# Altium integrated library Linear Technology Power Management Power Control.IntLib: 661 symbols (part 31 of 43)
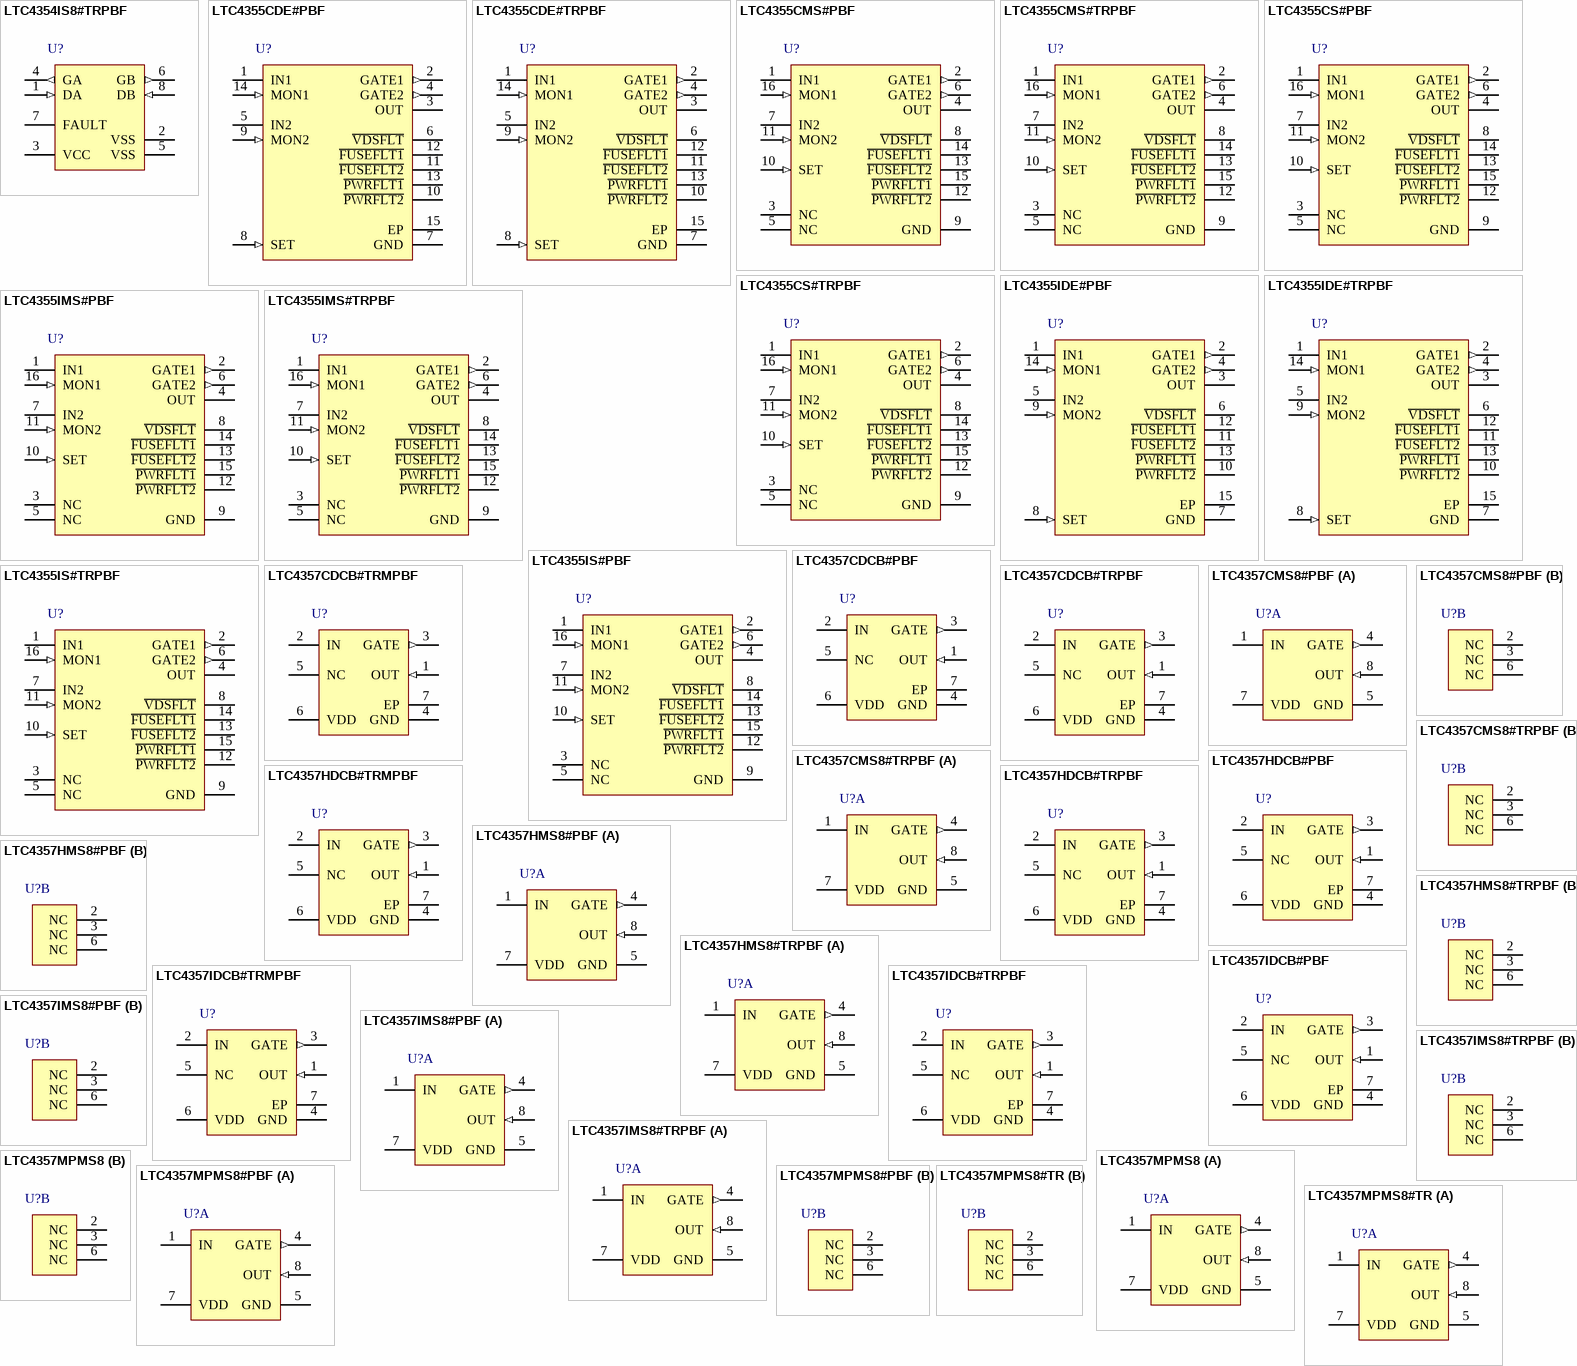
[diagram p49: symbols LTC4354IS8#TRPBF to LTC4357MPMS8#TR]

## LTC4355IMS#PBF
designator U?
Positive High Voltage Dual Ideal Diode-OR with Input Supply and Fuse Monitors, 9 to 80 V Vin, 16-pin SOP (MS-16), -40 to 85 degC, Pb-Free; Manufacturer: Linear Technology; PartNumber: LTC4355IMS#PBF; Ideal Diode: Dual, External, N-Channel; DatasheetVersion: Rev. E; PackageVersion: Rev. Ø, 06/2010; PackageReference: MS16; PackageDescription: 16-Pin Plastic MSOP, Body 4.04 x 3.00 mm, Pitch 0.50 mm; Supplier 1: Digi-Key; Supplier Part Number 1: LTC4355IMS#PBF-ND; Supplier 2: Farnell; Supplier Part Number 2: 2295294; Supplier 3: Newark; Supplier Part Number 3: 71P8109; RoHS: TRUE; Mounting Technology: Surface Mount; ComponentLink1Description: Manufacturer URL; ComponentLink1URL: http://www.linear.com/; ComponentLink2Description: Datasheet; ComponentLink2URL: http://cds.linear.com/docs/en/datasheet/4355fe.pdf; ComponentLink3Description: Package Specification; ComponentLink3URL: http://cds.linear.com/docs/en/packaging/05081669_A_MS16.pdf
footprint LT-MS-16_N (SOP, 16-Leads, Body 4.1x3.1mm, Pitch 0.5mm, IPC Medium Density)
footprint LT-MS-16_L (SOP, 16-Leads, Body 4.1x3.1mm, Pitch 0.5mm, IPC High Density)
footprint LT-MS-16_M (SOP, 16-Leads, Body 4.1x3.1mm, Pitch 0.5mm, IPC Low Density)
pins: 1 IN1 (power) "Input Voltages and GATE Fast Pull-Down Returns. The IN pins are the anodes of the ideal diodes and connect to the sources of the N-channel MOSFETs. The voltages sensed at these pins are used to control the source-drain (See Datasheet)", 2 GATE1 (out) "Gate Drive Outputs. The GATE pins pull high, enhancing the N-channel MOSFET when the load current creates more than 25mV of voltage drop across the MOSFET. When the load current is small, the gates are actively driven to (See Datasheet)", 3 NC "No Connection. Not internally connected. These pins provide extra distance between high and low voltage pins.", 4 OUT (power) "Drain Voltage Sense and Positive Supply Input. OUT is the diode-OR output of IN1 and IN2. It connects to the common drain connection of the N-channel MOSFETs. The voltage sensed at this pin is used to control the sourcedrain (See Datasheet)", 5 NC "No Connection. Not internally connected. These pins provide extra distance between high and low voltage pins.", 6 GATE2 (out) "Gate Drive Outputs. The GATE pins pull high, enhancing the N-channel MOSFET when the load current creates more than 25mV of voltage drop across the MOSFET. When the load current is small, the gates are actively driven to (See Datasheet)", 7 IN2 (power) "Input Voltages and GATE Fast Pull-Down Returns. The IN pins are the anodes of the ideal diodes and connect to the sources of the N-channel MOSFETs. The voltages sensed at these pins are used to control the source-drain (See Datasheet)", 8 ~{VDSFLT} (hiz) "MOSFET Fault Output. Open-drain output that pulls to GND when the forward voltage across either MOSFET exceeds deltaVSD(FLT). P\W\R\F\L\T\1\ or P\W\R\F\L\T\2\ also pulls low to indicate which MOSFET’s forward voltage dro(See Datasheet)", 9 GND (power) "Device Ground.", 10 SET (in) "deltaVSD(FLT) Threshold Configuration Input. Tying SET to GND, to a 100k resistor connected to GND, or leaving SET open configures the deltaVSD(FLT) forward voltage fault threshold to 250mV, 500mV, or 1.5V, respectively. (See Datasheet)", 11 MON2 (in) "Input Supply Monitors. These pins are used to sense the input supply voltages. Connect these pins to external resistive dividers between the input supplies and GND. If VMONx falls below 1.23V, the P\W\R\F\L\T\x\ pin pulls to (See Datasheet)", 12 ~{PWRFLT2} (hiz) "Power Fault Outputs. Open-drain output that pulls to GND when VMONx falls below 1.23V or the forward voltage across the MOSFET exceeds deltaVSD(FLT). When VMONx is above 1.23V and theforward voltage across the MOSFET is less (See Datasheet)", 13 ~{FUSEFLT2} (hiz) "Fuse Fault Outputs. Open-drain output that pulls to GND when VINx < 3.5V, indicating that the fuse has blown open. Otherwise, this output is high impedance. Connect to GND if unused.", 14 ~{FUSEFLT1} (hiz) "Fuse Fault Outputs. Open-drain output that pulls to GND when VINx < 3.5V, indicating that the fuse has blown open. Otherwise, this output is high impedance. Connect to GND if unused.", 15 ~{PWRFLT1} (hiz) "Power Fault Outputs. Open-drain output that pulls to GND when VMONx falls below 1.23V or the forward voltage across the MOSFET exceeds deltaVSD(FLT). When VMONx is above 1.23V and theforward voltage across the MOSFET is less (See Datasheet)", 16 MON1 (in) "Input Supply Monitors. These pins are used to sense the input supply voltages. Connect these pins to external resistive dividers between the input supplies and GND. If VMONx falls below 1.23V, the P\W\R\F\L\T\x\ pin pulls to (See Datasheet)"

## LTC4355IMS#TRPBF
designator U?
Positive High Voltage Dual Ideal Diode-OR with Input Supply and Fuse Monitors, 9 to 80 V Vin, 16-pin SOP (MS-16), -40 to 85 degC, Pb-Free, Tape and Reel; Manufacturer: Linear Technology; PartNumber: LTC4355IMS#TRPBF; Ideal Diode: Dual, External, N-Channel; DatasheetVersion: Rev. E; PackageVersion: Rev. Ø, 06/2010; PackageReference: MS16; PackageDescription: 16-Pin Plastic MSOP, Body 4.04 x 3.00 mm, Pitch 0.50 mm; Supplier 1: Digi-Key; Supplier Part Number 1: LTC4355IMS#TRPBF-ND; Supplier 2: Newark; Supplier Part Number 2: 71P8110; Packing: Tape and Reel; RoHS: TRUE; Mounting Technology: Surface Mount; ComponentLink1Description: Manufacturer URL; ComponentLink1URL: http://www.linear.com/; ComponentLink2Description: Datasheet; ComponentLink2URL: http://cds.linear.com/docs/en/datasheet/4355fe.pdf; ComponentLink3Description: Package Specification; ComponentLink3URL: http://cds.linear.com/docs/en/packaging/05081669_A_MS16.pdf
footprint LT-MS-16_N (SOP, 16-Leads, Body 4.1x3.1mm, Pitch 0.5mm, IPC Medium Density)
footprint LT-MS-16_L (SOP, 16-Leads, Body 4.1x3.1mm, Pitch 0.5mm, IPC High Density)
footprint LT-MS-16_M (SOP, 16-Leads, Body 4.1x3.1mm, Pitch 0.5mm, IPC Low Density)
pins: 1 IN1 (power) "Input Voltages and GATE Fast Pull-Down Returns. The IN pins are the anodes of the ideal diodes and connect to the sources of the N-channel MOSFETs. The voltages sensed at these pins are used to control the source-drain (See Datasheet)", 2 GATE1 (out) "Gate Drive Outputs. The GATE pins pull high, enhancing the N-channel MOSFET when the load current creates more than 25mV of voltage drop across the MOSFET. When the load current is small, the gates are actively driven to (See Datasheet)", 3 NC "No Connection. Not internally connected. These pins provide extra distance between high and low voltage pins.", 4 OUT (power) "Drain Voltage Sense and Positive Supply Input. OUT is the diode-OR output of IN1 and IN2. It connects to the common drain connection of the N-channel MOSFETs. The voltage sensed at this pin is used to control the sourcedrain (See Datasheet)", 5 NC "No Connection. Not internally connected. These pins provide extra distance between high and low voltage pins.", 6 GATE2 (out) "Gate Drive Outputs. The GATE pins pull high, enhancing the N-channel MOSFET when the load current creates more than 25mV of voltage drop across the MOSFET. When the load current is small, the gates are actively driven to (See Datasheet)", 7 IN2 (power) "Input Voltages and GATE Fast Pull-Down Returns. The IN pins are the anodes of the ideal diodes and connect to the sources of the N-channel MOSFETs. The voltages sensed at these pins are used to control the source-drain (See Datasheet)", 8 ~{VDSFLT} (hiz) "MOSFET Fault Output. Open-drain output that pulls to GND when the forward voltage across either MOSFET exceeds deltaVSD(FLT). P\W\R\F\L\T\1\ or P\W\R\F\L\T\2\ also pulls low to indicate which MOSFET’s forward voltage dro(See Datasheet)", 9 GND (power) "Device Ground.", 10 SET (in) "deltaVSD(FLT) Threshold Configuration Input. Tying SET to GND, to a 100k resistor connected to GND, or leaving SET open configures the deltaVSD(FLT) forward voltage fault threshold to 250mV, 500mV, or 1.5V, respectively. (See Datasheet)", 11 MON2 (in) "Input Supply Monitors. These pins are used to sense the input supply voltages. Connect these pins to external resistive dividers between the input supplies and GND. If VMONx falls below 1.23V, the P\W\R\F\L\T\x\ pin pulls to (See Datasheet)", 12 ~{PWRFLT2} (hiz) "Power Fault Outputs. Open-drain output that pulls to GND when VMONx falls below 1.23V or the forward voltage across the MOSFET exceeds deltaVSD(FLT). When VMONx is above 1.23V and theforward voltage across the MOSFET is less (See Datasheet)", 13 ~{FUSEFLT2} (hiz) "Fuse Fault Outputs. Open-drain output that pulls to GND when VINx < 3.5V, indicating that the fuse has blown open. Otherwise, this output is high impedance. Connect to GND if unused.", 14 ~{FUSEFLT1} (hiz) "Fuse Fault Outputs. Open-drain output that pulls to GND when VINx < 3.5V, indicating that the fuse has blown open. Otherwise, this output is high impedance. Connect to GND if unused.", 15 ~{PWRFLT1} (hiz) "Power Fault Outputs. Open-drain output that pulls to GND when VMONx falls below 1.23V or the forward voltage across the MOSFET exceeds deltaVSD(FLT). When VMONx is above 1.23V and theforward voltage across the MOSFET is less (See Datasheet)", 16 MON1 (in) "Input Supply Monitors. These pins are used to sense the input supply voltages. Connect these pins to external resistive dividers between the input supplies and GND. If VMONx falls below 1.23V, the P\W\R\F\L\T\x\ pin pulls to (See Datasheet)"

## LTC4355IS#PBF
designator U?
Positive High Voltage Dual Ideal Diode-OR with Input Supply and Fuse Monitors, 9 to 80 V Vin, 16-pin SOP (S-16), -40 to 85 degC, Pb-Free; Manufacturer: Linear Technology; PartNumber: LTC4355IS#PBF; Ideal Diode: Dual, External, N-Channel; DatasheetVersion: Rev. E; PackageVersion: Rev. G, 05/2012; PackageReference: S-16; PackageDescription: 16-Pin Plastic Small Outline, Body 9.9 x 3.9 mm, Pitch 1.27 mm; Supplier 1: Digi-Key; Supplier Part Number 1: LTC4355IS#PBF-ND; Supplier 2: Farnell; Supplier Part Number 2: 1663735; Supplier 3: Newark; Supplier Part Number 3: 56M9464; RoHS: TRUE; Mounting Technology: Surface Mount; ComponentLink1Description: Manufacturer URL; ComponentLink1URL: http://www.linear.com/; ComponentLink2Description: Datasheet; ComponentLink2URL: http://cds.linear.com/docs/en/datasheet/4355fe.pdf; ComponentLink3Description: Package Specification; ComponentLink3URL: http://cds.linear.com/docs/en/packaging/S16%2005-08-1610%20Rev%20G.pdf
footprint LT-S-16_N (SOP, 16-Leads, Body 10x4mm, Pitch 1.27mm, IPC Medium Density)
footprint LT-S-16_L (SOP, 16-Leads, Body 10x4mm, Pitch 1.27mm, IPC High Density)
footprint LT-S-16_M (SOP, 16-Leads, Body 10x4mm, Pitch 1.27mm, IPC Low Density)
pins: 1 IN1 (power) "Input Voltages and GATE Fast Pull-Down Returns. The IN pins are the anodes of the ideal diodes and connect to the sources of the N-channel MOSFETs. The voltages sensed at these pins are used to control the source-drain (See Datasheet)", 2 GATE1 (out) "Gate Drive Outputs. The GATE pins pull high, enhancing the N-channel MOSFET when the load current creates more than 25mV of voltage drop across the MOSFET. When the load current is small, the gates are actively driven to (See Datasheet)", 3 NC "No Connection. Not internally connected. These pins provide extra distance between high and low voltage pins.", 4 OUT (power) "Drain Voltage Sense and Positive Supply Input. OUT is the diode-OR output of IN1 and IN2. It connects to the common drain connection of the N-channel MOSFETs. The voltage sensed at this pin is used to control the sourcedrain (See Datasheet)", 5 NC "No Connection. Not internally connected. These pins provide extra distance between high and low voltage pins.", 6 GATE2 (out) "Gate Drive Outputs. The GATE pins pull high, enhancing the N-channel MOSFET when the load current creates more than 25mV of voltage drop across the MOSFET. When the load current is small, the gates are actively driven to (See Datasheet)", 7 IN2 (power) "Input Voltages and GATE Fast Pull-Down Returns. The IN pins are the anodes of the ideal diodes and connect to the sources of the N-channel MOSFETs. The voltages sensed at these pins are used to control the source-drain (See Datasheet)", 8 ~{VDSFLT} (hiz) "MOSFET Fault Output. Open-drain output that pulls to GND when the forward voltage across either MOSFET exceeds deltaVSD(FLT). P\W\R\F\L\T\1\ or P\W\R\F\L\T\2\ also pulls low to indicate which MOSFET’s forward voltage dro(See Datasheet)", 9 GND (power) "Device Ground.", 10 SET (in) "deltaVSD(FLT) Threshold Configuration Input. Tying SET to GND, to a 100k resistor connected to GND, or leaving SET open configures the deltaVSD(FLT) forward voltage fault threshold to 250mV, 500mV, or 1.5V, respectively. (See Datasheet)", 11 MON2 (in) "Input Supply Monitors. These pins are used to sense the input supply voltages. Connect these pins to external resistive dividers between the input supplies and GND. If VMONx falls below 1.23V, the P\W\R\F\L\T\x\ pin pulls to (See Datasheet)", 12 ~{PWRFLT2} (hiz) "Power Fault Outputs. Open-drain output that pulls to GND when VMONx falls below 1.23V or the forward voltage across the MOSFET exceeds deltaVSD(FLT). When VMONx is above 1.23V and theforward voltage across the MOSFET is less (See Datasheet)", 13 ~{FUSEFLT2} (hiz) "Fuse Fault Outputs. Open-drain output that pulls to GND when VINx < 3.5V, indicating that the fuse has blown open. Otherwise, this output is high impedance. Connect to GND if unused.", 14 ~{FUSEFLT1} (hiz) "Fuse Fault Outputs. Open-drain output that pulls to GND when VINx < 3.5V, indicating that the fuse has blown open. Otherwise, this output is high impedance. Connect to GND if unused.", 15 ~{PWRFLT1} (hiz) "Power Fault Outputs. Open-drain output that pulls to GND when VMONx falls below 1.23V or the forward voltage across the MOSFET exceeds deltaVSD(FLT). When VMONx is above 1.23V and theforward voltage across the MOSFET is less (See Datasheet)", 16 MON1 (in) "Input Supply Monitors. These pins are used to sense the input supply voltages. Connect these pins to external resistive dividers between the input supplies and GND. If VMONx falls below 1.23V, the P\W\R\F\L\T\x\ pin pulls to (See Datasheet)"

## LTC4355IS#TRPBF
designator U?
Positive High Voltage Dual Ideal Diode-OR with Input Supply and Fuse Monitors, 9 to 80 V Vin, 16-pin SOP (S-16), -40 to 85 degC, Pb-Free, Tape and Reel; Manufacturer: Linear Technology; PartNumber: LTC4355IS#TRPBF; Ideal Diode: Dual, External, N-Channel; DatasheetVersion: Rev. E; PackageVersion: Rev. G, 05/2012; PackageReference: S-16; PackageDescription: 16-Pin Plastic Small Outline, Body 9.9 x 3.9 mm, Pitch 1.27 mm; Supplier 1: Digi-Key; Supplier Part Number 1: LTC4355IS#TRPBF-ND; Packing: Tape and Reel; RoHS: TRUE; Mounting Technology: Surface Mount; ComponentLink1Description: Manufacturer URL; ComponentLink1URL: http://www.linear.com/; ComponentLink2Description: Datasheet; ComponentLink2URL: http://cds.linear.com/docs/en/datasheet/4355fe.pdf; ComponentLink3Description: Package Specification; ComponentLink3URL: http://cds.linear.com/docs/en/packaging/S16%2005-08-1610%20Rev%20G.pdf
footprint LT-S-16_N (SOP, 16-Leads, Body 10x4mm, Pitch 1.27mm, IPC Medium Density)
footprint LT-S-16_L (SOP, 16-Leads, Body 10x4mm, Pitch 1.27mm, IPC High Density)
footprint LT-S-16_M (SOP, 16-Leads, Body 10x4mm, Pitch 1.27mm, IPC Low Density)
pins: 1 IN1 (power) "Input Voltages and GATE Fast Pull-Down Returns. The IN pins are the anodes of the ideal diodes and connect to the sources of the N-channel MOSFETs. The voltages sensed at these pins are used to control the source-drain (See Datasheet)", 2 GATE1 (out) "Gate Drive Outputs. The GATE pins pull high, enhancing the N-channel MOSFET when the load current creates more than 25mV of voltage drop across the MOSFET. When the load current is small, the gates are actively driven to (See Datasheet)", 3 NC "No Connection. Not internally connected. These pins provide extra distance between high and low voltage pins.", 4 OUT (power) "Drain Voltage Sense and Positive Supply Input. OUT is the diode-OR output of IN1 and IN2. It connects to the common drain connection of the N-channel MOSFETs. The voltage sensed at this pin is used to control the sourcedrain (See Datasheet)", 5 NC "No Connection. Not internally connected. These pins provide extra distance between high and low voltage pins.", 6 GATE2 (out) "Gate Drive Outputs. The GATE pins pull high, enhancing the N-channel MOSFET when the load current creates more than 25mV of voltage drop across the MOSFET. When the load current is small, the gates are actively driven to (See Datasheet)", 7 IN2 (power) "Input Voltages and GATE Fast Pull-Down Returns. The IN pins are the anodes of the ideal diodes and connect to the sources of the N-channel MOSFETs. The voltages sensed at these pins are used to control the source-drain (See Datasheet)", 8 ~{VDSFLT} (hiz) "MOSFET Fault Output. Open-drain output that pulls to GND when the forward voltage across either MOSFET exceeds deltaVSD(FLT). P\W\R\F\L\T\1\ or P\W\R\F\L\T\2\ also pulls low to indicate which MOSFET’s forward voltage dro(See Datasheet)", 9 GND (power) "Device Ground.", 10 SET (in) "deltaVSD(FLT) Threshold Configuration Input. Tying SET to GND, to a 100k resistor connected to GND, or leaving SET open configures the deltaVSD(FLT) forward voltage fault threshold to 250mV, 500mV, or 1.5V, respectively. (See Datasheet)", 11 MON2 (in) "Input Supply Monitors. These pins are used to sense the input supply voltages. Connect these pins to external resistive dividers between the input supplies and GND. If VMONx falls below 1.23V, the P\W\R\F\L\T\x\ pin pulls to (See Datasheet)", 12 ~{PWRFLT2} (hiz) "Power Fault Outputs. Open-drain output that pulls to GND when VMONx falls below 1.23V or the forward voltage across the MOSFET exceeds deltaVSD(FLT). When VMONx is above 1.23V and theforward voltage across the MOSFET is less (See Datasheet)", 13 ~{FUSEFLT2} (hiz) "Fuse Fault Outputs. Open-drain output that pulls to GND when VINx < 3.5V, indicating that the fuse has blown open. Otherwise, this output is high impedance. Connect to GND if unused.", 14 ~{FUSEFLT1} (hiz) "Fuse Fault Outputs. Open-drain output that pulls to GND when VINx < 3.5V, indicating that the fuse has blown open. Otherwise, this output is high impedance. Connect to GND if unused.", 15 ~{PWRFLT1} (hiz) "Power Fault Outputs. Open-drain output that pulls to GND when VMONx falls below 1.23V or the forward voltage across the MOSFET exceeds deltaVSD(FLT). When VMONx is above 1.23V and theforward voltage across the MOSFET is less (See Datasheet)", 16 MON1 (in) "Input Supply Monitors. These pins are used to sense the input supply voltages. Connect these pins to external resistive dividers between the input supplies and GND. If VMONx falls below 1.23V, the P\W\R\F\L\T\x\ pin pulls to (See Datasheet)"

## LTC4357CDCB#PBF
designator U?
Positive High Voltage Ideal Diode Controller, 9 to 80 V Vin, 6-pin SON (DCB-6), 0 to 70 degC, Pb-Free; Manufacturer: Linear Technology; PartNumber: LTC4357CDCB#PBF; Ideal Diode: Single, External, N-Channel; DatasheetVersion: Rev. D; PackageVersion: Rev. A, 03/2011; PackageReference: DCB-6; PackageDescription: 6-Pin Plastic DFN, Body 2 x 3 mm, Pitch 0.5 mm; Supplier 1: Newark; Supplier Part Number 1: 78T3367; RoHS: TRUE; Mounting Technology: Surface Mount; Code_JEDEC: MO-229; ComponentLink1Description: Manufacturer URL; ComponentLink1URL: http://www.linear.com/; ComponentLink2Description: Datasheet; ComponentLink2URL: http://cds.linear.com/docs/en/datasheet/4357fd.pdf; ComponentLink3Description: Package Specification; ComponentLink3URL: http://www.linear.com/docs/en/packaging/(DCB6)%20DFN%2005-08-1715%20Rev%20A.pdf
footprint LT-DCB-6_V (SON, 6-Leads, Body 3x2mm, Pitch 0.5mm, Thermal Pad 1.65x1.35mm)
pins: 1 OUT (in) "Drain Voltage Sense. OUT is the cathode of the ideal diode and the common output when multiple LTC4357s are configured as an ideal diode-OR. It connects to the drain of the N-channel MOSFET. The voltage sensed at this pin is (See Datasheet)", 2 IN (power) "Input Voltage and GATE Fast Pull-Down Return. IN is the anode of the ideal diode and connects to the source of the N-channel MOSFET. The voltage sensed at this pin is used to control the source-drain voltage across the (See Datasheet)", 3 GATE (out) "Gate Drive Output. The GATE pin pulls high, enhancing the N-channel MOSFET when the load current creates more than 25mV of voltage drop across the MOSFET. When the load current is small, the gate is actively driven to (See Datasheet)", 4 GND (power) "Device Ground.", 5 NC "No Connection. Not internally connected.", 6 VDD (power) "Positive Supply Input. The LTC4357 is powered from the VDD pin. Connect this pin to OUT either directly or through an RC hold-up circuit.", 7 EP (power) "Exposed pad may be left open or connected to GND."

## LTC4357CDCB#TRMPBF
designator U?
Positive High Voltage Ideal Diode Controller, 9 to 80 V Vin, 6-pin SON (DCB-6), 0 to 70 degC, Pb-Free, Mini Tape and Reel; Manufacturer: Linear Technology; PartNumber: LTC4357CDCB#TRMPBF; Ideal Diode: Single, External, N-Channel; DatasheetVersion: Rev. D; PackageVersion: Rev. A, 03/2011; PackageReference: DCB-6; PackageDescription: 6-Pin Plastic DFN, Body 2 x 3 mm, Pitch 0.5 mm; Supplier 1: Digi-Key; Supplier Part Number 1: LTC4357CDCB#TRMPBFTR-ND; Supplier 2: Digi-Key; Supplier Part Number 2: LTC4357CDCB#TRMPBFCT-ND; Supplier 3: Digi-Key; Supplier Part Number 3: LTC4357CDCB#TRMPBFDKR-ND; Supplier 4: Newark; Supplier Part Number 4: 56M9466; RoHS: TRUE; Mounting Technology: Surface Mount; Code_JEDEC: MO-229; ComponentLink1Description: Manufacturer URL; ComponentLink1URL: http://www.linear.com/; ComponentLink2Description: Datasheet; ComponentLink2URL: http://cds.linear.com/docs/en/datasheet/4357fd.pdf; ComponentLink3Description: Package Specification; ComponentLink3URL: http://www.linear.com/docs/en/packaging/(DCB6)%20DFN%2005-08-1715%20Rev%20A.pdf
footprint LT-DCB-6_V (SON, 6-Leads, Body 3x2mm, Pitch 0.5mm, Thermal Pad 1.65x1.35mm)
pins: 1 OUT (in) "Drain Voltage Sense. OUT is the cathode of the ideal diode and the common output when multiple LTC4357s are configured as an ideal diode-OR. It connects to the drain of the N-channel MOSFET. The voltage sensed at this pin is (See Datasheet)", 2 IN (power) "Input Voltage and GATE Fast Pull-Down Return. IN is the anode of the ideal diode and connects to the source of the N-channel MOSFET. The voltage sensed at this pin is used to control the source-drain voltage across the (See Datasheet)", 3 GATE (out) "Gate Drive Output. The GATE pin pulls high, enhancing the N-channel MOSFET when the load current creates more than 25mV of voltage drop across the MOSFET. When the load current is small, the gate is actively driven to (See Datasheet)", 4 GND (power) "Device Ground.", 5 NC "No Connection. Not internally connected.", 6 VDD (power) "Positive Supply Input. The LTC4357 is powered from the VDD pin. Connect this pin to OUT either directly or through an RC hold-up circuit.", 7 EP (power) "Exposed pad may be left open or connected to GND."

## LTC4357CDCB#TRPBF
designator U?
Positive High Voltage Ideal Diode Controller, 9 to 80 V Vin, 6-pin SON (DCB-6), 0 to 70 degC, Pb-Free, Tape and Reel; Manufacturer: Linear Technology; PartNumber: LTC4357CDCB#TRPBF; Ideal Diode: Single, External, N-Channel; DatasheetVersion: Rev. D; PackageVersion: Rev. A, 03/2011; PackageReference: DCB-6; PackageDescription: 6-Pin Plastic DFN, Body 2 x 3 mm, Pitch 0.5 mm; Supplier 1: Digi-Key; Supplier Part Number 1: LTC4357CDCB#TRPBF-ND; Packing: Tape and Reel; RoHS: TRUE; Mounting Technology: Surface Mount; Code_JEDEC: MO-229; ComponentLink1Description: Manufacturer URL; ComponentLink1URL: http://www.linear.com/; ComponentLink2Description: Datasheet; ComponentLink2URL: http://cds.linear.com/docs/en/datasheet/4357fd.pdf; ComponentLink3Description: Package Specification; ComponentLink3URL: http://www.linear.com/docs/en/packaging/(DCB6)%20DFN%2005-08-1715%20Rev%20A.pdf
footprint LT-DCB-6_V (SON, 6-Leads, Body 3x2mm, Pitch 0.5mm, Thermal Pad 1.65x1.35mm)
pins: 1 OUT (in) "Drain Voltage Sense. OUT is the cathode of the ideal diode and the common output when multiple LTC4357s are configured as an ideal diode-OR. It connects to the drain of the N-channel MOSFET. The voltage sensed at this pin is (See Datasheet)", 2 IN (power) "Input Voltage and GATE Fast Pull-Down Return. IN is the anode of the ideal diode and connects to the source of the N-channel MOSFET. The voltage sensed at this pin is used to control the source-drain voltage across the (See Datasheet)", 3 GATE (out) "Gate Drive Output. The GATE pin pulls high, enhancing the N-channel MOSFET when the load current creates more than 25mV of voltage drop across the MOSFET. When the load current is small, the gate is actively driven to (See Datasheet)", 4 GND (power) "Device Ground.", 5 NC "No Connection. Not internally connected.", 6 VDD (power) "Positive Supply Input. The LTC4357 is powered from the VDD pin. Connect this pin to OUT either directly or through an RC hold-up circuit.", 7 EP (power) "Exposed pad may be left open or connected to GND."

## LTC4357CMS8#PBF
designator U?
Positive High Voltage Ideal Diode Controller, 9 to 80 V Vin, 8-pin SOP (MS8-8), 0 to 70 degC, Pb-Free; Manufacturer: Linear Technology; PartNumber: LTC4357CMS8#PBF; Ideal Diode: Single, External, N-Channel; DatasheetVersion: Rev. D; PackageVersion: Rev. G, 03/2012; PackageReference: MS8-8; PackageDescription: 8-Pin Plastic MSOP, Body 3 x 3 mm, Pitch 0.65 mm; Supplier 1: Digi-Key; Supplier Part Number 1: LTC4357CMS8#PBF-ND; Supplier 2: Farnell; Supplier Part Number 2: 1432779; Supplier 3: Newark; Supplier Part Number 3: 56M9468; RoHS: TRUE; Mounting Technology: Surface Mount; ComponentLink1Description: Manufacturer URL; ComponentLink1URL: http://www.linear.com/; ComponentLink2Description: Datasheet; ComponentLink2URL: http://cds.linear.com/docs/en/datasheet/4357fd.pdf; ComponentLink3Description: Package Specification; ComponentLink3URL: http://cds.linear.com/docs/en/packaging/05081660_G_MS8.pdf
footprint LT-MS8-8_N (SOP, 8-Leads, Body 3.1x3.1mm, Pitch 0.65mm, IPC Medium Density)
footprint LT-MS8-8_L (SOP, 8-Leads, Body 3.1x3.1mm, Pitch 0.65mm, IPC High Density)
footprint LT-MS8-8_M (SOP, 8-Leads, Body 3.1x3.1mm, Pitch 0.65mm, IPC Low Density)
part A pins: 1 IN (power) "Input Voltage and GATE Fast Pull-Down Return. IN is the anode of the ideal diode and connects to the source of the N-channel MOSFET. The voltage sensed at this pin is used to control the source-drain voltage across the (See Datasheet)", 4 GATE (out) "Gate Drive Output. The GATE pin pulls high, enhancing the N-channel MOSFET when the load current creates more than 25mV of voltage drop across the MOSFET. When the load current is small, the gate is actively driven to (See Datasheet)", 5 GND (power) "Device Ground.", 7 VDD (power) "Positive Supply Input. The LTC4357 is powered from the VDD pin. Connect this pin to OUT either directly or through an RC hold-up circuit.", 8 OUT (in) "Drain Voltage Sense. OUT is the cathode of the ideal diode and the common output when multiple LTC4357s are configured as an ideal diode-OR. It connects to the drain of the N-channel MOSFET. The voltage sensed at this pin is (See Datasheet)"
part B pins: 2 NC "No Connection. Not internally connected.", 3 NC "No Connection. Not internally connected.", 6 NC "No Connection. Not internally connected."

## LTC4357CMS8#TRPBF
designator U?
Positive High Voltage Ideal Diode Controller, 9 to 80 V Vin, 8-pin SOP (MS8-8), 0 to 70 degC, Pb-Free, Tape and Reel; Manufacturer: Linear Technology; PartNumber: LTC4357CMS8#TRPBF; Ideal Diode: Single, External, N-Channel; DatasheetVersion: Rev. D; PackageVersion: Rev. G, 03/2012; PackageReference: MS8-8; PackageDescription: 8-Pin Plastic MSOP, Body 3 x 3 mm, Pitch 0.65 mm; Supplier 1: Digi-Key; Supplier Part Number 1: LTC4357CMS8#TRPBF-ND; Supplier 2: Newark; Supplier Part Number 2: 56M9469; Packing: Tape and Reel; RoHS: TRUE; Mounting Technology: Surface Mount; ComponentLink1Description: Manufacturer URL; ComponentLink1URL: http://www.linear.com/; ComponentLink2Description: Datasheet; ComponentLink2URL: http://cds.linear.com/docs/en/datasheet/4357fd.pdf; ComponentLink3Description: Package Specification; ComponentLink3URL: http://cds.linear.com/docs/en/packaging/05081660_G_MS8.pdf
footprint LT-MS8-8_N (SOP, 8-Leads, Body 3.1x3.1mm, Pitch 0.65mm, IPC Medium Density)
footprint LT-MS8-8_L (SOP, 8-Leads, Body 3.1x3.1mm, Pitch 0.65mm, IPC High Density)
footprint LT-MS8-8_M (SOP, 8-Leads, Body 3.1x3.1mm, Pitch 0.65mm, IPC Low Density)
part A pins: 1 IN (power) "Input Voltage and GATE Fast Pull-Down Return. IN is the anode of the ideal diode and connects to the source of the N-channel MOSFET. The voltage sensed at this pin is used to control the source-drain voltage across the (See Datasheet)", 4 GATE (out) "Gate Drive Output. The GATE pin pulls high, enhancing the N-channel MOSFET when the load current creates more than 25mV of voltage drop across the MOSFET. When the load current is small, the gate is actively driven to (See Datasheet)", 5 GND (power) "Device Ground.", 7 VDD (power) "Positive Supply Input. The LTC4357 is powered from the VDD pin. Connect this pin to OUT either directly or through an RC hold-up circuit.", 8 OUT (in) "Drain Voltage Sense. OUT is the cathode of the ideal diode and the common output when multiple LTC4357s are configured as an ideal diode-OR. It connects to the drain of the N-channel MOSFET. The voltage sensed at this pin is (See Datasheet)"
part B pins: 2 NC "No Connection. Not internally connected.", 3 NC "No Connection. Not internally connected.", 6 NC "No Connection. Not internally connected."

## LTC4357HDCB#PBF
designator U?
Positive High Voltage Ideal Diode Controller, 9 to 80 V Vin, 6-pin SON (DCB-6), -40 to 125 degC, Pb-Free; Manufacturer: Linear Technology; PartNumber: LTC4357HDCB#PBF; Ideal Diode: Single, External, N-Channel; DatasheetVersion: Rev. D; PackageVersion: Rev. A, 03/2011; PackageReference: DCB-6; PackageDescription: 6-Pin Plastic DFN, Body 2 x 3 mm, Pitch 0.5 mm; Supplier 1: Farnell; Supplier Part Number 1: 1761230; Supplier 2: Newark; Supplier Part Number 2: 24R8518; RoHS: TRUE; Mounting Technology: Surface Mount; Code_JEDEC: MO-229; ComponentLink1Description: Manufacturer URL; ComponentLink1URL: http://www.linear.com/; ComponentLink2Description: Datasheet; ComponentLink2URL: http://cds.linear.com/docs/en/datasheet/4357fd.pdf; ComponentLink3Description: Package Specification; ComponentLink3URL: http://www.linear.com/docs/en/packaging/(DCB6)%20DFN%2005-08-1715%20Rev%20A.pdf
footprint LT-DCB-6_V (SON, 6-Leads, Body 3x2mm, Pitch 0.5mm, Thermal Pad 1.65x1.35mm)
pins: 1 OUT (in) "Drain Voltage Sense. OUT is the cathode of the ideal diode and the common output when multiple LTC4357s are configured as an ideal diode-OR. It connects to the drain of the N-channel MOSFET. The voltage sensed at this pin is (See Datasheet)", 2 IN (power) "Input Voltage and GATE Fast Pull-Down Return. IN is the anode of the ideal diode and connects to the source of the N-channel MOSFET. The voltage sensed at this pin is used to control the source-drain voltage across the (See Datasheet)", 3 GATE (out) "Gate Drive Output. The GATE pin pulls high, enhancing the N-channel MOSFET when the load current creates more than 25mV of voltage drop across the MOSFET. When the load current is small, the gate is actively driven to (See Datasheet)", 4 GND (power) "Device Ground.", 5 NC "No Connection. Not internally connected.", 6 VDD (power) "Positive Supply Input. The LTC4357 is powered from the VDD pin. Connect this pin to OUT either directly or through an RC hold-up circuit.", 7 EP (power) "Exposed pad may be left open or connected to GND."

## LTC4357HDCB#TRMPBF
designator U?
Positive High Voltage Ideal Diode Controller, 9 to 80 V Vin, 6-pin SON (DCB-6), -40 to 125 degC, Pb-Free, Mini Tape and Reel; Manufacturer: Linear Technology; PartNumber: LTC4357HDCB#TRMPBF; Ideal Diode: Single, External, N-Channel; DatasheetVersion: Rev. D; PackageVersion: Rev. A, 03/2011; PackageReference: DCB-6; PackageDescription: 6-Pin Plastic DFN, Body 2 x 3 mm, Pitch 0.5 mm; Supplier 1: Digi-Key; Supplier Part Number 1: LTC4357HDCB#TRMPBFTR-ND; Supplier 2: Digi-Key; Supplier Part Number 2: LTC4357HDCB#TRMPBFCT-ND; Supplier 3: Digi-Key; Supplier Part Number 3: LTC4357HDCB#TRMPBFDKR-ND; Supplier 4: Newark; Supplier Part Number 4: 24R3333; RoHS: TRUE; Mounting Technology: Surface Mount; Code_JEDEC: MO-229; ComponentLink1Description: Manufacturer URL; ComponentLink1URL: http://www.linear.com/; ComponentLink2Description: Datasheet; ComponentLink2URL: http://cds.linear.com/docs/en/datasheet/4357fd.pdf; ComponentLink3Description: Package Specification; ComponentLink3URL: http://www.linear.com/docs/en/packaging/(DCB6)%20DFN%2005-08-1715%20Rev%20A.pdf
footprint LT-DCB-6_V (SON, 6-Leads, Body 3x2mm, Pitch 0.5mm, Thermal Pad 1.65x1.35mm)
pins: 1 OUT (in) "Drain Voltage Sense. OUT is the cathode of the ideal diode and the common output when multiple LTC4357s are configured as an ideal diode-OR. It connects to the drain of the N-channel MOSFET. The voltage sensed at this pin is (See Datasheet)", 2 IN (power) "Input Voltage and GATE Fast Pull-Down Return. IN is the anode of the ideal diode and connects to the source of the N-channel MOSFET. The voltage sensed at this pin is used to control the source-drain voltage across the (See Datasheet)", 3 GATE (out) "Gate Drive Output. The GATE pin pulls high, enhancing the N-channel MOSFET when the load current creates more than 25mV of voltage drop across the MOSFET. When the load current is small, the gate is actively driven to (See Datasheet)", 4 GND (power) "Device Ground.", 5 NC "No Connection. Not internally connected.", 6 VDD (power) "Positive Supply Input. The LTC4357 is powered from the VDD pin. Connect this pin to OUT either directly or through an RC hold-up circuit.", 7 EP (power) "Exposed pad may be left open or connected to GND."

## LTC4357HDCB#TRPBF
designator U?
Positive High Voltage Ideal Diode Controller, 9 to 80 V Vin, 6-pin SON (DCB-6), -40 to 125 degC, Pb-Free, Tape and Reel; Manufacturer: Linear Technology; PartNumber: LTC4357HDCB#TRPBF; Ideal Diode: Single, External, N-Channel; DatasheetVersion: Rev. D; PackageVersion: Rev. A, 03/2011; PackageReference: DCB-6; PackageDescription: 6-Pin Plastic DFN, Body 2 x 3 mm, Pitch 0.5 mm; Supplier 1: Digi-Key; Supplier Part Number 1: LTC4357HDCB#TRPBF-ND; Supplier 2: Newark; Supplier Part Number 2: 25R2530; Packing: Tape and Reel; RoHS: TRUE; Mounting Technology: Surface Mount; Code_JEDEC: MO-229; ComponentLink1Description: Manufacturer URL; ComponentLink1URL: http://www.linear.com/; ComponentLink2Description: Datasheet; ComponentLink2URL: http://cds.linear.com/docs/en/datasheet/4357fd.pdf; ComponentLink3Description: Package Specification; ComponentLink3URL: http://www.linear.com/docs/en/packaging/(DCB6)%20DFN%2005-08-1715%20Rev%20A.pdf
footprint LT-DCB-6_V (SON, 6-Leads, Body 3x2mm, Pitch 0.5mm, Thermal Pad 1.65x1.35mm)
pins: 1 OUT (in) "Drain Voltage Sense. OUT is the cathode of the ideal diode and the common output when multiple LTC4357s are configured as an ideal diode-OR. It connects to the drain of the N-channel MOSFET. The voltage sensed at this pin is (See Datasheet)", 2 IN (power) "Input Voltage and GATE Fast Pull-Down Return. IN is the anode of the ideal diode and connects to the source of the N-channel MOSFET. The voltage sensed at this pin is used to control the source-drain voltage across the (See Datasheet)", 3 GATE (out) "Gate Drive Output. The GATE pin pulls high, enhancing the N-channel MOSFET when the load current creates more than 25mV of voltage drop across the MOSFET. When the load current is small, the gate is actively driven to (See Datasheet)", 4 GND (power) "Device Ground.", 5 NC "No Connection. Not internally connected.", 6 VDD (power) "Positive Supply Input. The LTC4357 is powered from the VDD pin. Connect this pin to OUT either directly or through an RC hold-up circuit.", 7 EP (power) "Exposed pad may be left open or connected to GND."

## LTC4357HMS8#PBF
designator U?
Positive High Voltage Ideal Diode Controller, 9 to 80 V Vin, 8-pin SOP (MS8-8), -40 to 125 degC, Pb-Free; Manufacturer: Linear Technology; PartNumber: LTC4357HMS8#PBF; Ideal Diode: Single, External, N-Channel; DatasheetVersion: Rev. D; PackageVersion: Rev. G, 03/2012; PackageReference: MS8-8; PackageDescription: 8-Pin Plastic MSOP, Body 3 x 3 mm, Pitch 0.65 mm; Supplier 1: Digi-Key; Supplier Part Number 1: LTC4357HMS8#PBF-ND; Supplier 2: Farnell; Supplier Part Number 2: 1847452; Supplier 3: Newark; Supplier Part Number 3: 24R3334; RoHS: TRUE; Mounting Technology: Surface Mount; ComponentLink1Description: Manufacturer URL; ComponentLink1URL: http://www.linear.com/; ComponentLink2Description: Datasheet; ComponentLink2URL: http://cds.linear.com/docs/en/datasheet/4357fd.pdf; ComponentLink3Description: Package Specification; ComponentLink3URL: http://cds.linear.com/docs/en/packaging/05081660_G_MS8.pdf
footprint LT-MS8-8_N (SOP, 8-Leads, Body 3.1x3.1mm, Pitch 0.65mm, IPC Medium Density)
footprint LT-MS8-8_L (SOP, 8-Leads, Body 3.1x3.1mm, Pitch 0.65mm, IPC High Density)
footprint LT-MS8-8_M (SOP, 8-Leads, Body 3.1x3.1mm, Pitch 0.65mm, IPC Low Density)
part A pins: 1 IN (power) "Input Voltage and GATE Fast Pull-Down Return. IN is the anode of the ideal diode and connects to the source of the N-channel MOSFET. The voltage sensed at this pin is used to control the source-drain voltage across the (See Datasheet)", 4 GATE (out) "Gate Drive Output. The GATE pin pulls high, enhancing the N-channel MOSFET when the load current creates more than 25mV of voltage drop across the MOSFET. When the load current is small, the gate is actively driven to (See Datasheet)", 5 GND (power) "Device Ground.", 7 VDD (power) "Positive Supply Input. The LTC4357 is powered from the VDD pin. Connect this pin to OUT either directly or through an RC hold-up circuit.", 8 OUT (in) "Drain Voltage Sense. OUT is the cathode of the ideal diode and the common output when multiple LTC4357s are configured as an ideal diode-OR. It connects to the drain of the N-channel MOSFET. The voltage sensed at this pin is (See Datasheet)"
part B pins: 2 NC "No Connection. Not internally connected.", 3 NC "No Connection. Not internally connected.", 6 NC "No Connection. Not internally connected."

## LTC4357HMS8#TRPBF
designator U?
Positive High Voltage Ideal Diode Controller, 9 to 80 V Vin, 8-pin SOP (MS8-8), -40 to 125 degC, Pb-Free, Tape and Reel; Manufacturer: Linear Technology; PartNumber: LTC4357HMS8#TRPBF; Ideal Diode: Single, External, N-Channel; DatasheetVersion: Rev. D; PackageVersion: Rev. G, 03/2012; PackageReference: MS8-8; PackageDescription: 8-Pin Plastic MSOP, Body 3 x 3 mm, Pitch 0.65 mm; Supplier 1: Digi-Key; Supplier Part Number 1: LTC4357HMS8#TRPBF-ND; Supplier 2: Newark; Supplier Part Number 2: 25R2531; Packing: Tape and Reel; RoHS: TRUE; Mounting Technology: Surface Mount; ComponentLink1Description: Manufacturer URL; ComponentLink1URL: http://www.linear.com/; ComponentLink2Description: Datasheet; ComponentLink2URL: http://cds.linear.com/docs/en/datasheet/4357fd.pdf; ComponentLink3Description: Package Specification; ComponentLink3URL: http://cds.linear.com/docs/en/packaging/05081660_G_MS8.pdf
footprint LT-MS8-8_N (SOP, 8-Leads, Body 3.1x3.1mm, Pitch 0.65mm, IPC Medium Density)
footprint LT-MS8-8_L (SOP, 8-Leads, Body 3.1x3.1mm, Pitch 0.65mm, IPC High Density)
footprint LT-MS8-8_M (SOP, 8-Leads, Body 3.1x3.1mm, Pitch 0.65mm, IPC Low Density)
part A pins: 1 IN (power) "Input Voltage and GATE Fast Pull-Down Return. IN is the anode of the ideal diode and connects to the source of the N-channel MOSFET. The voltage sensed at this pin is used to control the source-drain voltage across the (See Datasheet)", 4 GATE (out) "Gate Drive Output. The GATE pin pulls high, enhancing the N-channel MOSFET when the load current creates more than 25mV of voltage drop across the MOSFET. When the load current is small, the gate is actively driven to (See Datasheet)", 5 GND (power) "Device Ground.", 7 VDD (power) "Positive Supply Input. The LTC4357 is powered from the VDD pin. Connect this pin to OUT either directly or through an RC hold-up circuit.", 8 OUT (in) "Drain Voltage Sense. OUT is the cathode of the ideal diode and the common output when multiple LTC4357s are configured as an ideal diode-OR. It connects to the drain of the N-channel MOSFET. The voltage sensed at this pin is (See Datasheet)"
part B pins: 2 NC "No Connection. Not internally connected.", 3 NC "No Connection. Not internally connected.", 6 NC "No Connection. Not internally connected."

## LTC4357IDCB#PBF
designator U?
Positive High Voltage Ideal Diode Controller, 9 to 80 V Vin, 6-pin SON (DCB-6), -40 to 85 degC, Pb-Free; Manufacturer: Linear Technology; PartNumber: LTC4357IDCB#PBF; Ideal Diode: Single, External, N-Channel; DatasheetVersion: Rev. D; PackageVersion: Rev. A, 03/2011; PackageReference: DCB-6; PackageDescription: 6-Pin Plastic DFN, Body 2 x 3 mm, Pitch 0.5 mm; Supplier 1: Farnell; Supplier Part Number 1: 1432780; Supplier 2: Newark; Supplier Part Number 2: 78T3368; RoHS: TRUE; Mounting Technology: Surface Mount; Code_JEDEC: MO-229; ComponentLink1Description: Manufacturer URL; ComponentLink1URL: http://www.linear.com/; ComponentLink2Description: Datasheet; ComponentLink2URL: http://cds.linear.com/docs/en/datasheet/4357fd.pdf; ComponentLink3Description: Package Specification; ComponentLink3URL: http://www.linear.com/docs/en/packaging/(DCB6)%20DFN%2005-08-1715%20Rev%20A.pdf
footprint LT-DCB-6_V (SON, 6-Leads, Body 3x2mm, Pitch 0.5mm, Thermal Pad 1.65x1.35mm)
pins: 1 OUT (in) "Drain Voltage Sense. OUT is the cathode of the ideal diode and the common output when multiple LTC4357s are configured as an ideal diode-OR. It connects to the drain of the N-channel MOSFET. The voltage sensed at this pin is (See Datasheet)", 2 IN (power) "Input Voltage and GATE Fast Pull-Down Return. IN is the anode of the ideal diode and connects to the source of the N-channel MOSFET. The voltage sensed at this pin is used to control the source-drain voltage across the (See Datasheet)", 3 GATE (out) "Gate Drive Output. The GATE pin pulls high, enhancing the N-channel MOSFET when the load current creates more than 25mV of voltage drop across the MOSFET. When the load current is small, the gate is actively driven to (See Datasheet)", 4 GND (power) "Device Ground.", 5 NC "No Connection. Not internally connected.", 6 VDD (power) "Positive Supply Input. The LTC4357 is powered from the VDD pin. Connect this pin to OUT either directly or through an RC hold-up circuit.", 7 EP (power) "Exposed pad may be left open or connected to GND."

## LTC4357IDCB#TRMPBF
designator U?
Positive High Voltage Ideal Diode Controller, 9 to 80 V Vin, 6-pin SON (DCB-6), -40 to 85 degC, Pb-Free, Mini Tape and Reel; Manufacturer: Linear Technology; PartNumber: LTC4357IDCB#TRMPBF; Ideal Diode: Single, External, N-Channel; DatasheetVersion: Rev. D; PackageVersion: Rev. A, 03/2011; PackageReference: DCB-6; PackageDescription: 6-Pin Plastic DFN, Body 2 x 3 mm, Pitch 0.5 mm; Supplier 1: Digi-Key; Supplier Part Number 1: LTC4357IDCB#TRMPBFTR-ND; Supplier 2: Digi-Key; Supplier Part Number 2: LTC4357IDCB#TRMPBFCT-ND; Supplier 3: Digi-Key; Supplier Part Number 3: LTC4357IDCB#TRMPBFDKR-ND; Supplier 4: Farnell; Supplier Part Number 4: 1663915; Supplier 5: Newark; Supplier Part Number 5: 56M9470; RoHS: TRUE; Mounting Technology: Surface Mount; Code_JEDEC: MO-229; ComponentLink1Description: Manufacturer URL; ComponentLink1URL: http://www.linear.com/; ComponentLink2Description: Datasheet; ComponentLink2URL: http://cds.linear.com/docs/en/datasheet/4357fd.pdf; ComponentLink3Description: Package Specification; ComponentLink3URL: http://www.linear.com/docs/en/packaging/(DCB6)%20DFN%2005-08-1715%20Rev%20A.pdf
footprint LT-DCB-6_V (SON, 6-Leads, Body 3x2mm, Pitch 0.5mm, Thermal Pad 1.65x1.35mm)
pins: 1 OUT (in) "Drain Voltage Sense. OUT is the cathode of the ideal diode and the common output when multiple LTC4357s are configured as an ideal diode-OR. It connects to the drain of the N-channel MOSFET. The voltage sensed at this pin is (See Datasheet)", 2 IN (power) "Input Voltage and GATE Fast Pull-Down Return. IN is the anode of the ideal diode and connects to the source of the N-channel MOSFET. The voltage sensed at this pin is used to control the source-drain voltage across the (See Datasheet)", 3 GATE (out) "Gate Drive Output. The GATE pin pulls high, enhancing the N-channel MOSFET when the load current creates more than 25mV of voltage drop across the MOSFET. When the load current is small, the gate is actively driven to (See Datasheet)", 4 GND (power) "Device Ground.", 5 NC "No Connection. Not internally connected.", 6 VDD (power) "Positive Supply Input. The LTC4357 is powered from the VDD pin. Connect this pin to OUT either directly or through an RC hold-up circuit.", 7 EP (power) "Exposed pad may be left open or connected to GND."

## LTC4357IDCB#TRPBF
designator U?
Positive High Voltage Ideal Diode Controller, 9 to 80 V Vin, 6-pin SON (DCB-6), -40 to 85 degC, Pb-Free, Tape and Reel; Manufacturer: Linear Technology; PartNumber: LTC4357IDCB#TRPBF; Ideal Diode: Single, External, N-Channel; DatasheetVersion: Rev. D; PackageVersion: Rev. A, 03/2011; PackageReference: DCB-6; PackageDescription: 6-Pin Plastic DFN, Body 2 x 3 mm, Pitch 0.5 mm; Supplier 1: Digi-Key; Supplier Part Number 1: LTC4357IDCB#TRPBF-ND; Packing: Tape and Reel; RoHS: TRUE; Mounting Technology: Surface Mount; Code_JEDEC: MO-229; ComponentLink1Description: Manufacturer URL; ComponentLink1URL: http://www.linear.com/; ComponentLink2Description: Datasheet; ComponentLink2URL: http://cds.linear.com/docs/en/datasheet/4357fd.pdf; ComponentLink3Description: Package Specification; ComponentLink3URL: http://www.linear.com/docs/en/packaging/(DCB6)%20DFN%2005-08-1715%20Rev%20A.pdf
footprint LT-DCB-6_V (SON, 6-Leads, Body 3x2mm, Pitch 0.5mm, Thermal Pad 1.65x1.35mm)
pins: 1 OUT (in) "Drain Voltage Sense. OUT is the cathode of the ideal diode and the common output when multiple LTC4357s are configured as an ideal diode-OR. It connects to the drain of the N-channel MOSFET. The voltage sensed at this pin is (See Datasheet)", 2 IN (power) "Input Voltage and GATE Fast Pull-Down Return. IN is the anode of the ideal diode and connects to the source of the N-channel MOSFET. The voltage sensed at this pin is used to control the source-drain voltage across the (See Datasheet)", 3 GATE (out) "Gate Drive Output. The GATE pin pulls high, enhancing the N-channel MOSFET when the load current creates more than 25mV of voltage drop across the MOSFET. When the load current is small, the gate is actively driven to (See Datasheet)", 4 GND (power) "Device Ground.", 5 NC "No Connection. Not internally connected.", 6 VDD (power) "Positive Supply Input. The LTC4357 is powered from the VDD pin. Connect this pin to OUT either directly or through an RC hold-up circuit.", 7 EP (power) "Exposed pad may be left open or connected to GND."

## LTC4357IMS8#PBF
designator U?
Positive High Voltage Ideal Diode Controller, 9 to 80 V Vin, 8-pin SOP (MS8-8), -40 to 85 degC, Pb-Free; Manufacturer: Linear Technology; PartNumber: LTC4357IMS8#PBF; Ideal Diode: Single, External, N-Channel; DatasheetVersion: Rev. D; PackageVersion: Rev. G, 03/2012; PackageReference: MS8-8; PackageDescription: 8-Pin Plastic MSOP, Body 3 x 3 mm, Pitch 0.65 mm; Supplier 1: Digi-Key; Supplier Part Number 1: LTC4357IMS8#PBF-ND; Supplier 2: Farnell; Supplier Part Number 2: 1432781; Supplier 3: Newark; Supplier Part Number 3: 56M9472; RoHS: TRUE; Mounting Technology: Surface Mount; ComponentLink1Description: Manufacturer URL; ComponentLink1URL: http://www.linear.com/; ComponentLink2Description: Datasheet; ComponentLink2URL: http://cds.linear.com/docs/en/datasheet/4357fd.pdf; ComponentLink3Description: Package Specification; ComponentLink3URL: http://cds.linear.com/docs/en/packaging/05081660_G_MS8.pdf
footprint LT-MS8-8_N (SOP, 8-Leads, Body 3.1x3.1mm, Pitch 0.65mm, IPC Medium Density)
footprint LT-MS8-8_L (SOP, 8-Leads, Body 3.1x3.1mm, Pitch 0.65mm, IPC High Density)
footprint LT-MS8-8_M (SOP, 8-Leads, Body 3.1x3.1mm, Pitch 0.65mm, IPC Low Density)
part A pins: 1 IN (power) "Input Voltage and GATE Fast Pull-Down Return. IN is the anode of the ideal diode and connects to the source of the N-channel MOSFET. The voltage sensed at this pin is used to control the source-drain voltage across the (See Datasheet)", 4 GATE (out) "Gate Drive Output. The GATE pin pulls high, enhancing the N-channel MOSFET when the load current creates more than 25mV of voltage drop across the MOSFET. When the load current is small, the gate is actively driven to (See Datasheet)", 5 GND (power) "Device Ground.", 7 VDD (power) "Positive Supply Input. The LTC4357 is powered from the VDD pin. Connect this pin to OUT either directly or through an RC hold-up circuit.", 8 OUT (in) "Drain Voltage Sense. OUT is the cathode of the ideal diode and the common output when multiple LTC4357s are configured as an ideal diode-OR. It connects to the drain of the N-channel MOSFET. The voltage sensed at this pin is (See Datasheet)"
part B pins: 2 NC "No Connection. Not internally connected.", 3 NC "No Connection. Not internally connected.", 6 NC "No Connection. Not internally connected."